# EAGLE library part HEADER_17P (library Bauteile)
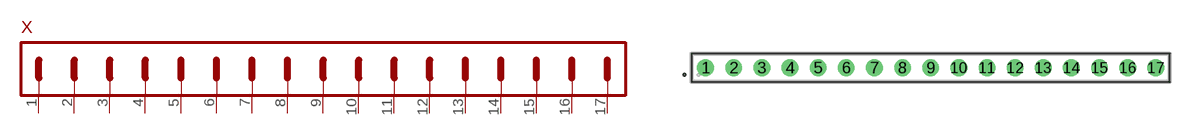
[diagram p78: symbol with the pads of HEADER_17P_1ROW_RM2.54MM_THT; footprint HEADER_17P_1ROW_RM2.54MM_THT]

Designator prefix X

## HEADER_17P(RM2.54MM_1ROW_THT)  [HEADER_17P_1ROW_RM2.54MM_THT]
1  PIN1
2  PIN2
3  PIN3
4  PIN4
5  PIN5
6  PIN6
7  PIN7
8  PIN8
9  PIN9
10  PIN10
11  PIN11
12  PIN12
13  PIN13
14  PIN14
15  PIN15
16  PIN16
17  PIN17

## Footprint HEADER_17P_1ROW_RM2.54MM_THT (pad centres in mm)
drill 1: 1 -20.32,0; 2 -17.78,0; 3 -15.24,0; 4 -12.7,0; 5 -10.16,0; 6 -7.62,0; 7 -5.08,0; 8 -2.54,0; 9 0,0; 10 2.54,0; 11 5.08,0; 12 7.62,0; 13 10.16,0; 14 12.7,0; 15 15.24,0; 16 17.78,0; 17 20.32,0